# Altium footprint library PcbLib1.PcbLib: 2 footprints
Each footprint in its own frame and in the unit in brackets; x right, y up, seen from the top. Pads: shape width x height; smd on the part's side, far side on the other; paste and mask are expansions set on the pad; w line width, h text height; cw(c..) or ccw(c..) is an arc to the next point about the centre after c.
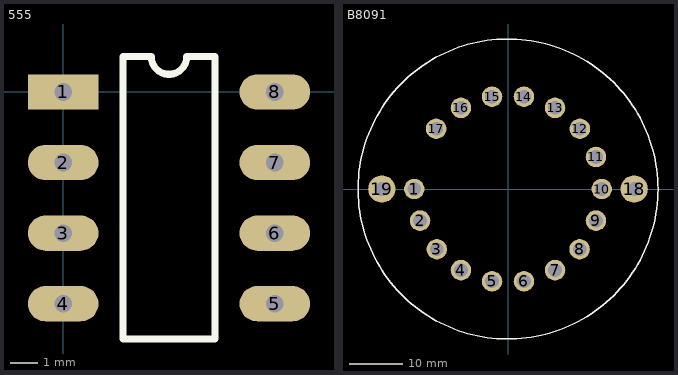
[diagram p0: the footprints below, top view; thin cyan lines are the x and y axes]

## 555 [mil]
pads (8):
  rect 100x50 hole 25: 1(0,0)
  oval 100x50 hole 25: 2(0,-100) 3(0,-200) 4(0,-300) 5(300,-300) 6(300,-200) 7(300,-100) 8(300,0)
Top Overlay:
  lines w10: 85,-350 215,-350 215,50 175,50 cw(c150,50) 125,50 85,50 85,-350

## B8091 [mil] "Nixie tube"
pads (19):
  round 150 hole 100: 1(-687.5,0) 2(-645,-232) 3(-522,-442) 4(-345,-595) 5(-117,-677) 6(117,-677) 7(345,-595) 8(525,-442) 9(645,-232) 10(687.5,0) 11(645,235) 12(527,442) 13(345,595) 14(117,677) 15(-117,677) 16(-345,595) 17(-527,442)
  round 200 hole 100: 18(925,0) 19(-925,0)
Top Overlay:
  circle w10: c0,0 r1100